# EAGLE library part TE_SUBD9M (library laforge)
TE connectivity 1734351-1
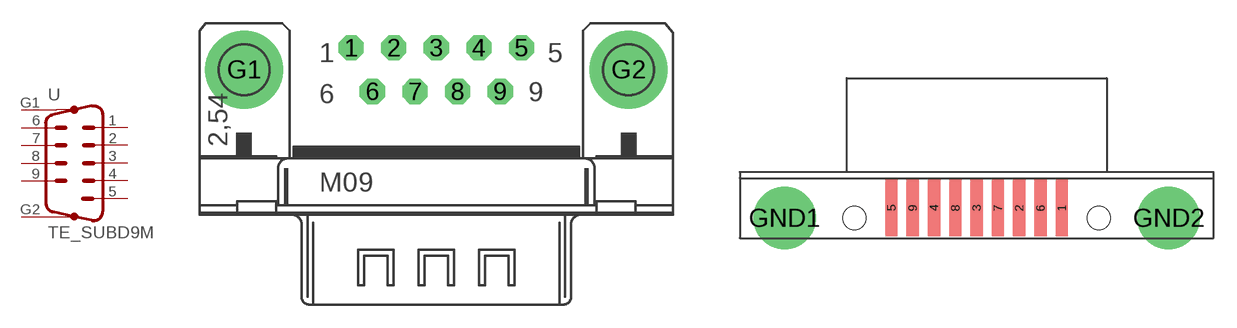
[diagram p10: symbol with the pads of DB9_TE; footprints DB9_TE, SUBD9M-SMD]

Designator prefix -

## TE_SUBD9MTHT  [DB9_TE]
1  1  pas
2  2  pas
3  3  pas
4  4  pas
5  5  pas
6  6  pas
7  7  pas
8  8  pas
9  9  pas
G1  G1  pas
G2  G2  pas

## TE_SUBD9MSMD (OC_DIGIKEY: A35105-ND)  [SUBD9M-SMD]
1  1  pas
2  2  pas
3  3  pas
4  4  pas
5  5  pas
6  6  pas
7  7  pas
8  8  pas
9  9  pas
GND1  G1  pas
GND2  G2  pas

## Footprint DB9_TE (pad centres in mm)
TE Connectivity SUB-D male 9pin, right angle, 8.08mm 1734351-1
drill 1.09 octagon: 1 -5.54,2.84; 2 -2.77,2.84; 3 0,2.84; 4 2.77,2.84; 5 5.54,2.84; 6 -4.16,0; 7 -1.39,0; 8 1.39,0; 9 4.16,0
drill 3.18 pad 5.08: G1 -12.495,1.42; G2 12.495,1.42

## Footprint SUBD9M-SMD (pad centres in mm)
NorComp 190-009-163R001
smd 0.8 x 3.7: 1 5.54,0.65; 2 2.77,0.65; 3 0,0.65; 4 -2.77,0.65; 5 -5.54,0.65; 6 4.155,0.65; 7 1.385,0.65; 8 -1.385,0.65; 9 -4.155,0.65
drill 3.05: GND1 -12.495,0; GND2 12.495,0
hole 1.5 at -7.95,0
hole 1.5 at 7.95,0